# EAGLE library part CAP0XXXX (library power_integrations)
When AC voltage is applied, CAPZero blocks current flow in the X capacitor safety discharge resistors, reducing the power loss to less than 5 mW, or essentially zero1 at 230 VAC. When AC voltage is disconnected, CAPZero automatically discharges the X capacitor by connecting the series discharge resistors. This operation allows total flexibility in the choice of the X capacitor to optimize differential mode EMI filtering and reduce inductor costs, with no change in power consumption.
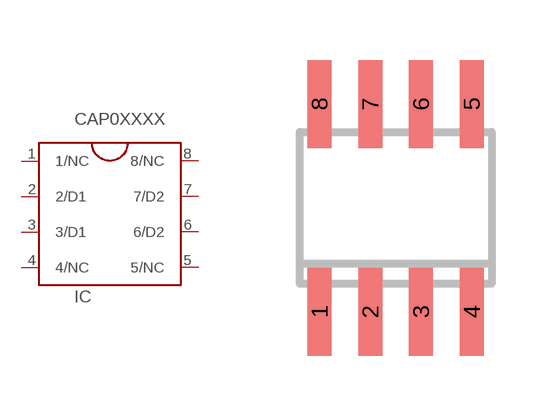
[diagram p3: symbol with the pads of SO08; footprint SO08]

Designator prefix IC

## CAP0XXXX  [SO08]
1  1/NC  nc
2  2/D1
3  3/D1
4  4/NC  nc
5  5/NC  nc
6  6/D2
7  7/D2
8  8/NC  nc

## Footprint SO08 (pad centres in mm)
SMALL OUTLINE INTEGRATED CIRCUIT body 3.9 mm/JEDEC MS-012AA
smd 0.6 x 2.2: 1 -1.905,-2.6; 2 -0.635,-2.6; 3 0.635,-2.6; 4 1.905,-2.6; 5 1.905,2.6; 6 0.635,2.6; 7 -0.635,2.6; 8 -1.905,2.6